# Altium footprint library Attend - 112J_TDAR.PCBLIB: 1 footprints
Each footprint in its own frame and in the unit in brackets; x right, y up, seen from the top. Pads: shape width x height; smd on the part's side, far side on the other; paste and mask are expansions set on the pad; w line width, h text height; cw(c..) or ccw(c..) is an arc to the next point about the centre after c.
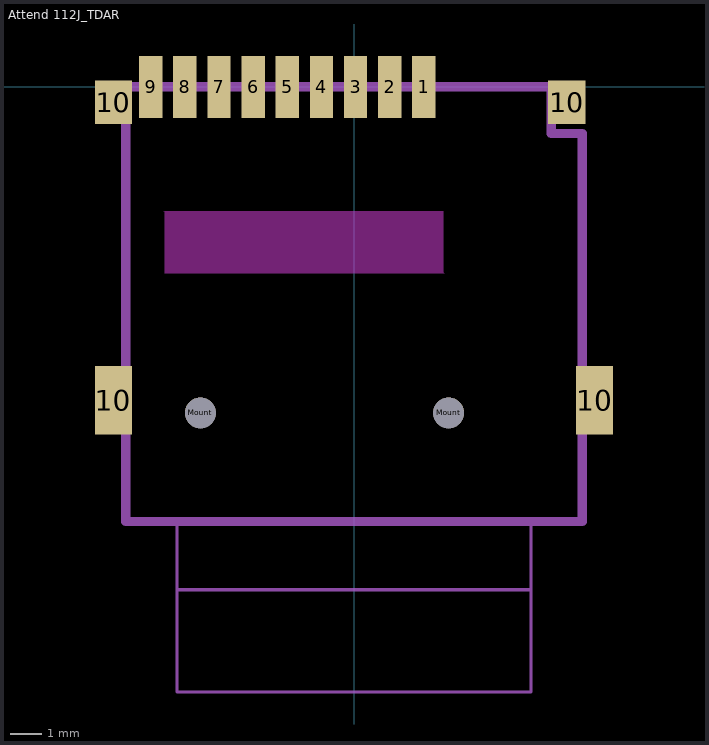
[diagram p0: the footprint, top view; thin cyan lines are the x and y axes]

## Attend 112J_TDAR [mm] "SD card holder, 9-Leads, Body 2.00x1.25mm, IPC Medium Density"
height 0.7
pads (15):
  rect 0.75x2 smd: 1(2.25,0) 2(1.15,0) 3(0.05,0) 4(-1.05,0) 5(-2.15,0) 6(-3.25,0) 7(-4.35,0) 8(-5.45,0) 9(-6.55,0)
  rect 1.2x2.2 smd: 10(-7.75,-10.1) 10(7.75,-10.1)
  rect 1.2x1.4 smd mask+0.15: 10(-7.75,-0.5)
  rect 1.2x1.4 smd: 10(6.85,-0.5)
  round 1 hole 1 unplated: Mount(-4.95,-10.5) Mount(3.05,-10.5)
Top Layer keep-out:
  region: -6.121,-4 -6.1,-4.021 -6.1,-6 2.9,-6 2.879,-5.979 2.879,-4
Top Assembly:
  lines w0.1: -5.7,-16.2 5.7,-16.2 ; -5.7,-14 -5.7,-19.5 5.7,-19.5 5.7,-14
  lines w0.3: -7.35,-14 7.35,-14 7.35,-1.5 6.35,-1.5 6.35,0 -7.35,0 -7.35,-14
  text "Card inserted" at 0.75,-16 h1
  text "Card ejected" at 1,-19.25 h1
3D body "Micro SD card.x_t": height 1.7, standoff 0.72, extent -5.5,-19.5 5.5,-4.5
3D body "112J-TXAR-R_C_1.stp": height 1.85, standoff -0.6, extent -8.05,-14.503 8.05,0.5